# Altium footprint library LDO_Analog_Devices_ADM7170ACPZ-2.5-R7_2.5V.PcbLib: 1 footprints
Each footprint in its own frame and in the unit in brackets; x right, y up, seen from the top. Pads: shape width x height; smd on the part's side, far side on the other; paste and mask are expansions set on the pad; w line width, h text height; cw(c..) or ccw(c..) is an arc to the next point about the centre after c.
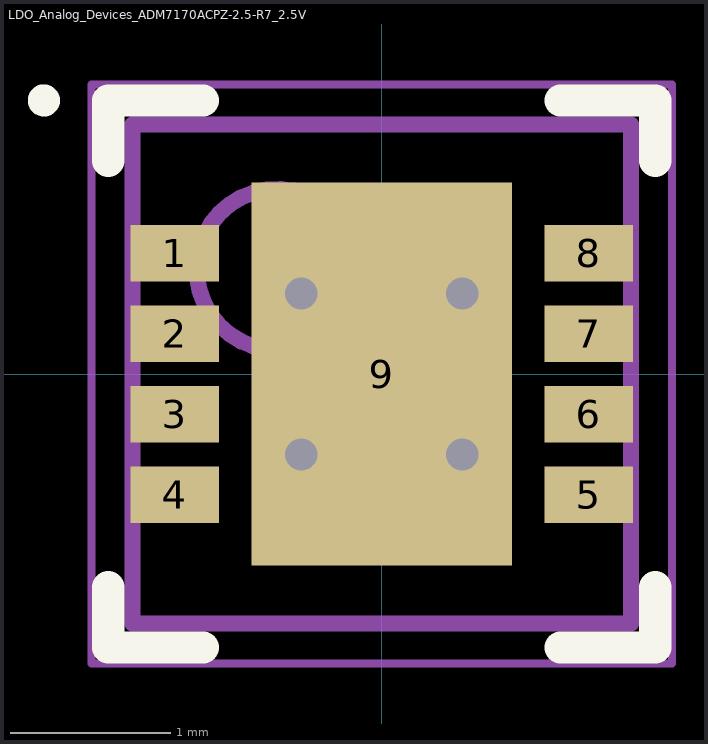
[diagram p0: the footprint, top view; thin cyan lines are the x and y axes]

## LDO_Analog_Devices_ADM7170ACPZ-2.5-R7_2.5V [mm]
height 0.75
pads (9):
  rect 0.55x0.35 smd: 1(-1.285,0.75) 2(-1.285,0.25) 3(-1.285,-0.25) 4(-1.285,-0.75) 5(1.285,-0.75) 6(1.285,-0.25) 7(1.285,0.25) 8(1.285,0.75)
  rect 1.62x2.38 smd: 9(0,0)
via -0.5,0.5 diameter 0.5 hole 0.2
via 0.5,0.5 diameter 0.5 hole 0.2
via -0.5,-0.5 diameter 0.5 hole 0.2
via 0.5,-0.5 diameter 0.5 hole 0.2
Top Overlay:
  circle w0.1: c-2.1,1.7 r0.05
  lines w0.2: -1.7,-1.325 -1.7,-1.7 -1.11,-1.7 ; -1.7,1.325 -1.7,1.7 -1.11,1.7 ; 1.11,-1.7 1.7,-1.7 1.7,-1.325 ; 1.11,1.7 1.7,1.7 1.7,1.325
Mechanical 13:
  circle w0.1: c-0.65,0.65 r0.5
  lines w0.1: -1.55,-1.55 -1.55,1.55 1.55,1.55 1.55,-1.55 -1.55,-1.55
Mechanical 15:
  lines w0.05: -1.805,-1.8 -1.805,1.8 1.805,1.8 1.805,-1.8 -1.805,-1.8
  lines w0.1: -0.5,0 0.5,0 ; 0,-0.5 0,0.5
3D body "PSON50P300X75_HS-9N.step": height 0.75, standoff 0, extent -1.551,-1.55 1.551,1.55